# EAGLE library part EXTCON8P (library ublox)
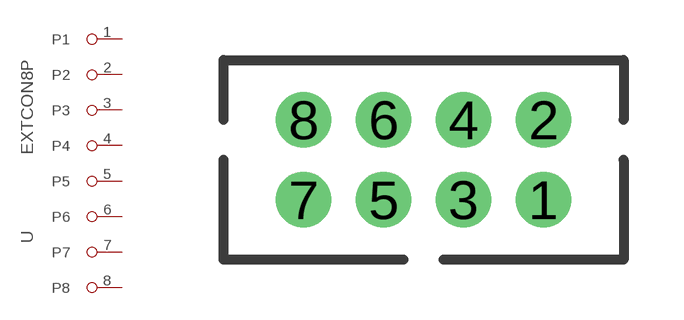
[diagram p11: symbol with the pads of PINH-2MM-8P; footprint PINH-2MM-8P]

Designator prefix -

## EXTCON8P  [PINH-2MM-8P]
1  P1
2  P2
3  P3
4  P4
5  P5
6  P6
7  P7
8  P8

## Footprint PINH-2MM-8P (pad centres in mm)
drill 0.889 round: 1 3,-1; 2 3,1; 3 1,-1; 4 1,1; 5 -1,-1; 6 -1,1; 7 -3,-1; 8 -3,1